# EAGLE library part ALPS-SKRHAAE010 (library ClintonLib)
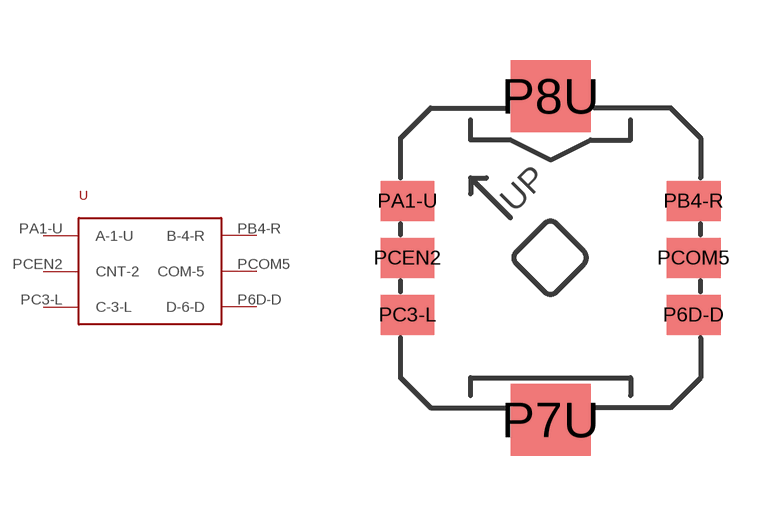
[diagram p4: symbol with the pads of ALPS-SKRHAAE010; footprint ALPS-SKRHAAE010]

Designator prefix -

## ALPS-SKRHAAE010  [ALPS-SKRHAAE010]
P6D-D  D-6-D
PA1-U  A-1-U
PB4-R  B-4-R
PC3-L  C-3-L
PCEN2  CNT-2
PCOM5  COM-5

## Footprint ALPS-SKRHAAE010 (pad centres in mm)
smd 1.35 x 1: P6D-D 3.575,-1.425; PA1-U -3.575,1.425; PB4-R 3.575,1.425; PC3-L -3.575,-1.425; PCEN2 -3.575,0; PCOM5 3.575,0
smd 2 x 1.8: P7U 0,-4.05; P8U 0,4.05